# Altium footprint library Custom.PcbLib: 446 footprints (part 3 of 28)
Each footprint in its own frame and in the unit in brackets; x right, y up, seen from the top. Pads: shape width x height; smd on the part's side, far side on the other; paste and mask are expansions set on the pad; w line width, h text height; cw(c..) or ccw(c..) is an arc to the next point about the centre after c.
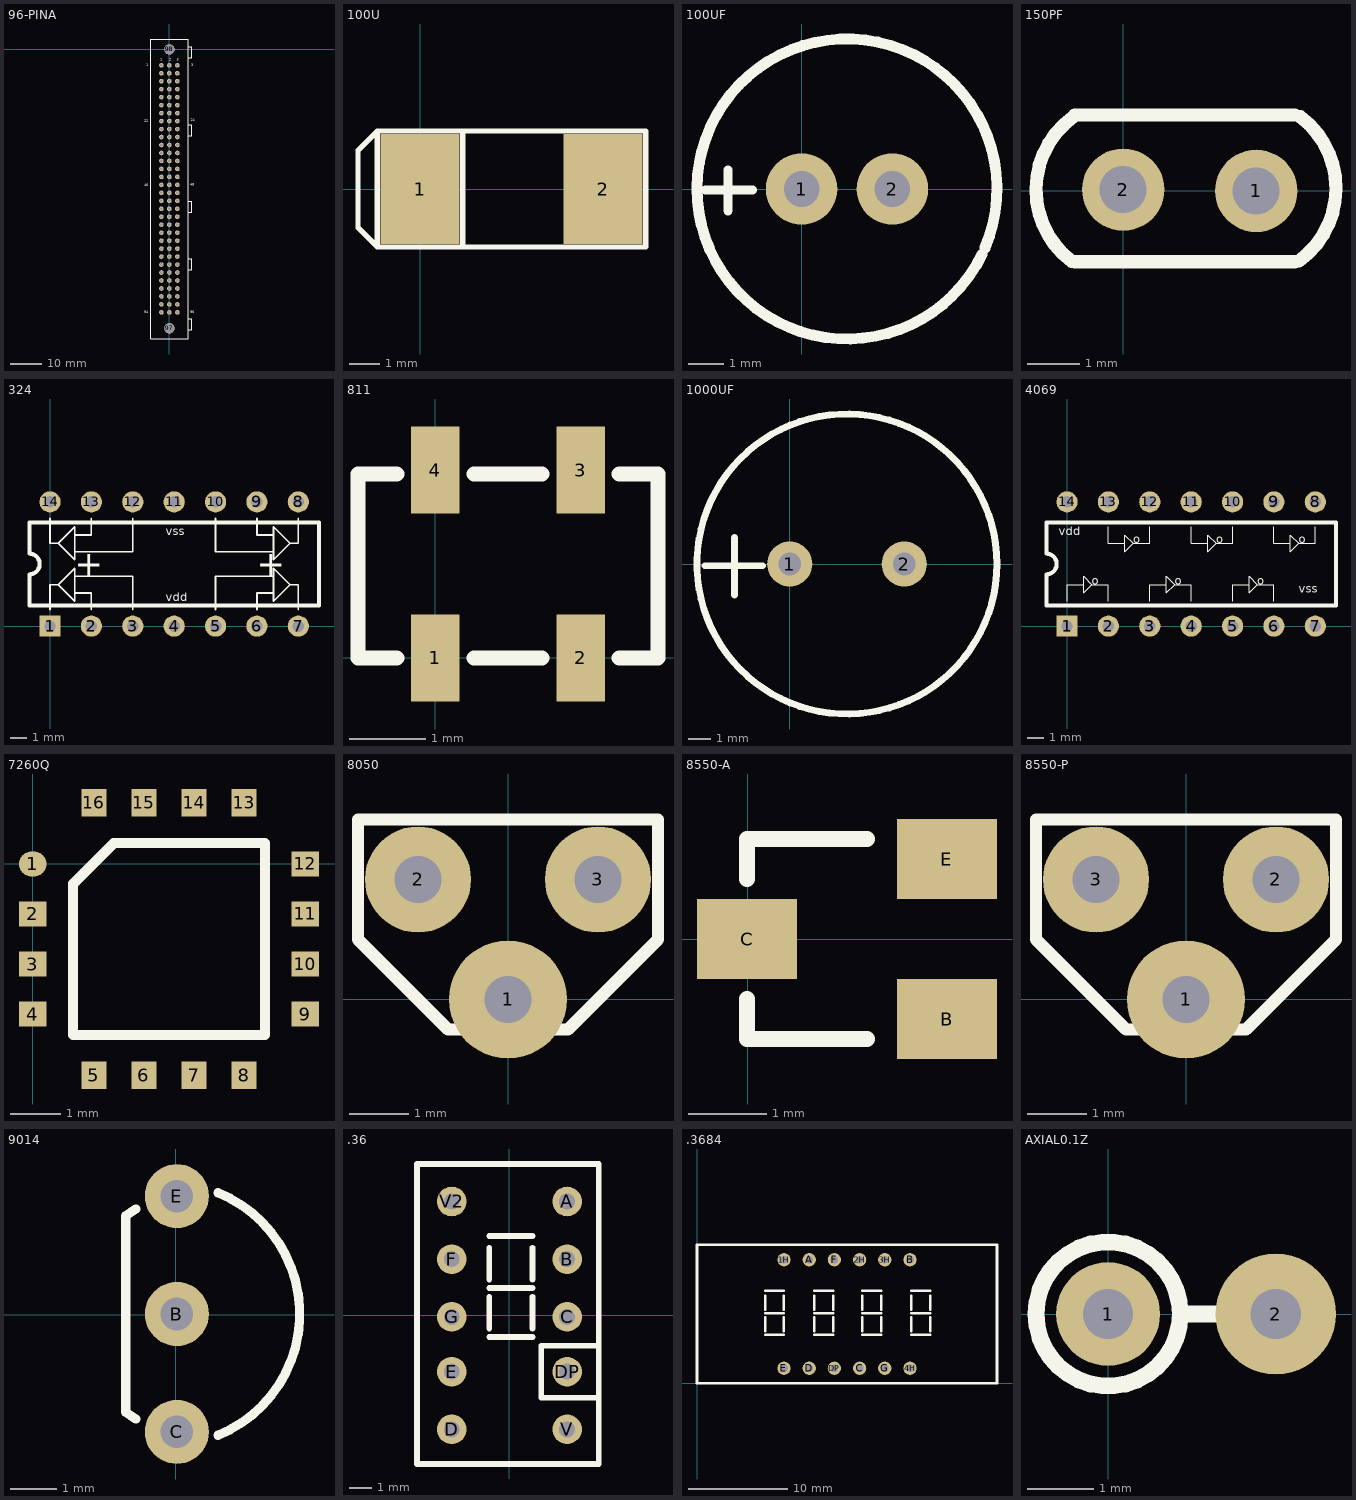
[diagram p2: the footprints below, top view; thin cyan lines are the x and y axes]

## 96-PINA [mil]
pads (99):
  round 58 hole 33: 1(-100,-200) 2(0,-200) 3(100,-200) 4(-100,-300) 5(0,-300) 6(100,-300) 7(-100,-400) 8(0,-400) 9(100,-400) 10(-100,-500) 11(0,-500) 12(100,-500) 13(-100,-600) 14(0,-600) 15(100,-600) 16(-100,-700) 17(0,-700) 18(100,-700) 19(-100,-800) 20(0,-800) 21(100,-800) 22(-100,-900) 23(0,-900) 24(100,-900) 25(-100,-1000) 26(0,-1000) 27(100,-1000) 28(-100,-1100) 29(0,-1100) 30(100,-1100) 31(-100,-1200) 32(0,-1200) 33(100,-1200) 34(-100,-1300) 35(0,-1300) 36(100,-1300) 37(-100,-1400) 38(0,-1400) 39(100,-1400) 40(-100,-1500) 41(0,-1500) 42(100,-1500) 43(-100,-1600) 44(0,-1600) 45(100,-1600) 46(-100,-1700) 47(0,-1700) 48(100,-1700) 49(-100,-1800) 50(0,-1800) 51(100,-1800) 52(-100,-1900) 53(0,-1900) 54(100,-1900) 55(-100,-2000) 56(0,-2000) 57(100,-2000) 58(-100,-2100) 59(0,-2100) 60(100,-2100) 61(-100,-2200) 62(0,-2200) 63(100,-2200) 64(-100,-2300) 65(0,-2300) 66(100,-2300) 67(-100,-2400) 68(0,-2400) 69(100,-2400) 70(-100,-2500) 71(0,-2500) 72(100,-2500) 73(-100,-2600) 74(0,-2600) 75(100,-2600) 76(-100,-2700) 77(0,-2700) 78(100,-2700) 79(-100,-2800) 80(0,-2800) 81(100,-2800) 82(-100,-2900) 83(0,-2900) 84(100,-2900) 85(-100,-3000) 86(0,-3000) 87(100,-3000) 88(-100,-3100) 89(0,-3100) 90(100,-3100) 91(-100,-3200) 92(0,-3200) 93(100,-3200) 94(-100,-3300) 95(0,-3300) 96(100,-3300)
  round 128 hole 128: 97(0,-3500) 98(0,0) 98(0,0)
Top Overlay:
  lines w12: -236.22,-3633.86 236.22,-3633.86 236.22,129.92 -236.22,129.92 -236.22,-3633.86 ; 235,-3520 280,-3520 280,-3380 235,-3380 235,-3520 ; 235,-2765 280,-2765 280,-2625 235,-2625 235,-2765 ; 235,-2045 280,-2045 280,-1905 235,-1905 235,-2045 ; 235,-1085 280,-1085 280,-945 235,-945 235,-1085 ; 235,-105 280,-105 280,35 235,35 235,-105
  text "1" at -115,-145 h30
  text "46" at -315,-1715 h30
  text "48" at 260,-1710 h30
  text "24" at 265,-905 h30
  text "22" at -315,-915 h30
  text "96" at 260,-3310 h30
  text "94" at -315,-3310 h30
  text "3" at 275,-215 h30
  text "1" at -290,-215 h30
  text "3" at 95,-145 h30
  text "2" at -5,-145 h30

## 100U [mm]
pads (2):
  rect 2.6x3.6 smd: 1(0,0.009) 2(6,0.009)
Top Overlay:
  lines w0.178: 1.4,-1.891 1.4,1.909 ; -1.4,-1.891 -2.032,-1.259 -2.032,1.277 -1.4,1.909 ; -1.4,-1.891 7.4,-1.891 7.4,1.909 -1.4,1.909 ; -1.4,-1.891 -1.4,1.909

## 100UF [mm]
pads (2):
  round 2 hole 1: 1(0,0) 2(2.54,0)
Top Overlay:
  lines w0.254: -2.692,-0.025 -1.372,-0.025 ; -2.057,-0.61 -2.057,0.533
  lines w0.305: 5.049,-1.834 cw(c1.27,0) 5.129,-1.658

## 150PF [mil]
pads (2):
  round 62 hole 35.43: 1(100,0) 2(0,1)
Top Overlay:
  lines w10: -38.7,-52.9 cw(c1.97,1) -37.75,55.6 ; -36.42,-53.15 128.94,-53.15 ; -36.42,57.09 128.94,57.09 ; 132.24,-52.64 ccw(c92.52,1.95) 133.18,55.85

## 324 [mm]
pads (14):
  rect 1.3x1.3 hole 0.7: 1(0,0)
  round 1.3 hole 0.7: 2(2.54,0) 3(5.08,0) 4(7.62,0) 5(10.16,0) 6(12.7,0) 7(15.24,0) 8(15.24,7.62) 9(12.7,7.62) 10(10.16,7.62) 11(7.62,7.62) 12(5.08,7.62) 13(2.54,7.62) 14(0,7.62)
Top Overlay:
  lines w0.102: 0,1.016 0,2.54 0.508,2.54 ; 0,6.604 0,5.08 0.508,5.08 ; 1.524,2.032 2.54,2.032 2.54,1.016 ; 1.524,3.048 5.08,3.048 5.08,1.016 ; 1.524,4.572 5.08,4.572 5.08,6.604 ; 1.524,5.588 2.54,5.588 2.54,6.604 ; 10.16,1.016 10.16,3.048 13.716,3.048 ; 10.16,6.604 10.16,4.572 13.716,4.572 ; 12.7,1.016 12.7,2.032 13.716,2.032 ; 12.7,6.604 12.7,5.588 13.716,5.588 ; 15.24,1.016 15.24,2.54 14.732,2.54 ; 15.24,6.604 15.24,5.08 14.732,5.08 ; 0.508,2.54 1.524,3.556 1.524,1.524 0.508,2.54 ; 0.508,5.08 1.524,4.064 1.524,6.096 0.508,5.08 ; 14.732,2.54 13.716,3.556 13.716,1.524 14.732,2.54 ; 14.732,5.08 13.716,6.096 13.716,4.064 14.732,5.08
  lines w0.254: -1.27,1.27 -1.27,3.175 ccw(c-1.27,3.81) -1.27,4.445 -1.27,6.35 16.51,6.35 16.51,1.27 -1.27,1.27
  text "vdd" at 7.112,1.524 h0.51
  text "vss" at 7.112,5.588 h0.51
  text "+" at 1.524,3.048 h1.52
  text "+" at 12.7,3.048 h1.52

## 811 [mil]
pads (4):
  rect 25x45 smd: 1(0,0) 2(75,0) 3(75,97) 4(0,97)
Top Overlay:
  lines w7.87: -20,0 -40,0 -40,90 -40,95 -35,95 -20,95 ; 20,0 55,0 ; 20,95 55,95 ; 95,0 115,0 115,95 95,95

## 1000UF [mm]
pads (2):
  round 2 hole 1: 1(0,0) 2(5.08,0)
Top Overlay:
  circle w0.305: c2.54,0 r6.65
  lines w0.305: -3.747,-0.076 -1.207,-0.076 ; -2.447,-1.371 -2.447,1.169

## 4069 [mm]
pads (14):
  rect 1.3x1.3 hole 0.7: 1(0,0)
  round 1.3 hole 0.7: 2(2.54,0) 3(5.08,0) 4(7.62,0) 5(10.16,0) 6(12.7,0) 7(15.24,0) 8(15.24,7.62) 9(12.7,7.62) 10(10.16,7.62) 11(7.62,7.62) 12(5.08,7.62) 13(2.54,7.62) 14(0,7.62)
Top Overlay:
  lines w0.051: 0,1.524 0,2.54 0.508,2.54 1.016,2.54 ; 2.54,1.524 2.54,2.54 1.524,2.54 ; 2.54,6.096 2.54,5.08 3.048,5.08 3.556,5.08 ; 5.08,1.524 5.08,2.54 5.588,2.54 6.096,2.54 ; 5.08,6.096 5.08,5.08 4.064,5.08 ; 7.62,1.524 7.62,2.54 6.604,2.54 ; 7.62,6.096 7.62,5.08 8.128,5.08 8.636,5.08 ; 10.16,1.524 10.16,2.54 10.668,2.54 11.176,2.54 ; 10.16,6.096 10.16,5.08 9.144,5.08 ; 12.7,1.524 12.7,2.54 11.684,2.54 ; 12.7,6.096 12.7,5.08 13.208,5.08 13.716,5.08 ; 15.24,6.096 15.24,5.08 14.224,5.08 ; 1.524,2.54 1.016,3.048 1.016,2.032 1.524,2.54 ; 4.064,5.08 3.556,5.588 3.556,4.572 4.064,5.08 ; 6.604,2.54 6.096,3.048 6.096,2.032 6.604,2.54 ; 9.144,5.08 8.636,5.588 8.636,4.572 9.144,5.08 ; 11.684,2.54 11.176,3.048 11.176,2.032 11.684,2.54 ; 14.224,5.08 13.716,5.588 13.716,4.572 14.224,5.08
  lines w0.254: -1.27,1.27 -1.27,3.175 ccw(c-1.27,3.81) -1.27,4.445 -1.27,6.35 16.51,6.35 16.51,1.27 -1.27,1.27
  text "o" at 1.524,2.54 h0.51
  text "o" at 6.604,2.54 h0.51
  text "o" at 11.684,2.54 h0.51
  text "o" at 14.224,5.08 h0.51
  text "o" at 9.144,5.08 h0.51
  text "o" at 4.064,5.08 h0.51
  text "vdd" at -0.508,5.588 h0.51
  text "vss" at 14.224,2.032 h0.51

## 7260Q [mm]
pads (16):
  oval 0.55x0.5 smd: 1(0,0)
  rect 0.55x0.5 smd: 2(0,-1) 3(0,-2) 4(0,-3) 9(5.45,-3) 10(5.45,-2) 11(5.45,-1) 12(5.45,0)
  rect 0.5x0.55 smd: 5(1.225,-4.225) 6(2.225,-4.225) 7(3.225,-4.225) 8(4.225,-4.225) 13(4.225,1.225) 14(3.225,1.225) 15(2.225,1.225) 16(1.225,1.225)
Top Overlay:
  lines w0.2: 0.81,-3.415 4.64,-3.415 4.64,0.415 1.62,0.415 0.81,-0.395 0.81,-3.415

## 8050 [mm]
pads (3):
  round 2 hole 0.8: 1(0,0)
  round 1.8 hole 0.8: 2(-1.524,2.032) 3(1.524,2.032)
Top Overlay:
  lines w0.203: -2.54,1.016 -1.016,-0.508 1.016,-0.508 2.54,1.016 2.54,3.048 -2.54,3.048 -2.54,1.016

## 8550-A [mil]
pads (3):
  rect 50x40 smd: B(99.7,-40) C(-0.3,0) E(99.7,40)
Top Overlay:
  lines w8: -0.3,-30 -0.3,-50 59.7,-50 ; -0.3,30 -0.3,50 59.7,50

## 8550-P [mm]
pads (3):
  round 2 hole 0.8: 1(0,0)
  round 1.8 hole 0.8: 2(1.524,2.032) 3(-1.524,2.032)
Top Overlay:
  lines w0.203: -2.54,1.016 -2.54,3.048 2.54,3.048 2.54,1.016 1.016,-0.508 -1.016,-0.508 -2.54,1.016

## 9014 [mm]
pads (3):
  round 1.38 hole 0.7: B(0.025,0.013) C(0.025,-2.527) E(0.025,2.553)
Top Overlay:
  lines w0.2: -0.856,-2.25 -1.075,-2.104 -1.075,2.129 -0.856,2.275 ; 0.911,-2.597 ccw(c-0.144,0.013) 0.911,2.623

## .36 [mm]
pads (10):
  round 1.3 hole 0.7: A(2.54,5.016) B(2.54,2.476) C(2.54,-0.064) D(-2.54,-5.016) DP(2.54,-2.476) E(-2.54,-2.476) F(-2.54,2.476) G(-2.54,-0.064) V(2.54,-5.016) V2(-2.54,5.016)
Top Overlay:
  lines w0.254: -0.889,-0.953 1.016,-0.953 ; -0.889,-0.572 -0.889,0.826 ; -0.889,1.206 1.016,1.206 ; -0.889,1.587 -0.889,2.984 ; -0.889,3.492 1.016,3.492 ; 1.016,-0.572 1.016,0.826 ; 1.016,1.587 1.016,2.984 ; 3.937,-3.619 1.397,-3.619 1.397,-1.333 3.937,-1.333 ; -4.064,-6.54 3.937,-6.54 3.937,6.667 -4.064,6.667 -4.064,-6.54

## .3684 [mil]
pads (12):
  round 52.76 hole 30: 1H(345,490) 2H(645,490) 3H(745,490) 4H(845,60) A(445,490) B(845,490) C(645,60) D(445,60) DP(545,60) E(345,60) F(545,490) G(745,60)
Top Overlay:
  lines w10: 270,192.5 345,192.5 ; 270,207.5 270,262.5 ; 270,277.5 345,277.5 ; 270,292.5 270,347.5 ; 270,367.5 345,367.5 ; 345,207.5 345,262.5 ; 345,292.5 345,347.5 ; 465,192.5 540,192.5 ; 465,207.5 465,262.5 ; 465,277.5 540,277.5 ; 465,292.5 465,347.5 ; 465,367.5 540,367.5 ; 540,207.5 540,262.5 ; 540,292.5 540,347.5 ; 655,192.5 730,192.5 ; 655,207.5 655,262.5 ; 655,277.5 730,277.5 ; 655,292.5 655,347.5 ; 655,367.5 730,367.5 ; 730,207.5 730,262.5 ; 730,292.5 730,347.5 ; 850,192.5 925,192.5 ; 850,207.5 850,262.5 ; 850,277.5 925,277.5 ; 850,292.5 850,347.5 ; 850,367.5 925,367.5 ; 925,207.5 925,262.5 ; 925,292.5 925,347.5 ; 1185,0 0,0 0,550 1185,550 ; 1190,0 1190,550

## AXIAL0.1Z [mil]
pads (2):
  round 62 hole 30: 1(0,0)
  round 72 hole 30: 2(100,0)
Top Overlay:
  circle w10: c0,0 r43.01
  lines w10: 45,0 70,0